# Altium schematic symbol library Mini-Circuits_HPF_6pin.Schlib: 1 symbol
Pins are listed as number, name and electrical type; pins without a type are passive.

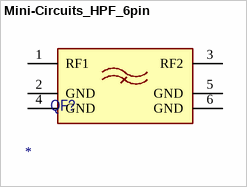
[diagram p0: symbol Mini-Circuits_HPF_6pin]

## Mini-Circuits_HPF_6pin
designator QF?
Part Number: *
pins: 1 RF1, 2 GND, 3 RF2, 4 GND, 5 GND, 6 GND